# EAGLE library part LTC3836 (library PowerProducts)
LT-Spice library generated with : ltspice.ulp from: D:/Program Files (x86)/LTC/LTspiceIV/lib/sym/PowerProducts/LTC3850-1*.asy at 07.10.2012 18:41:22
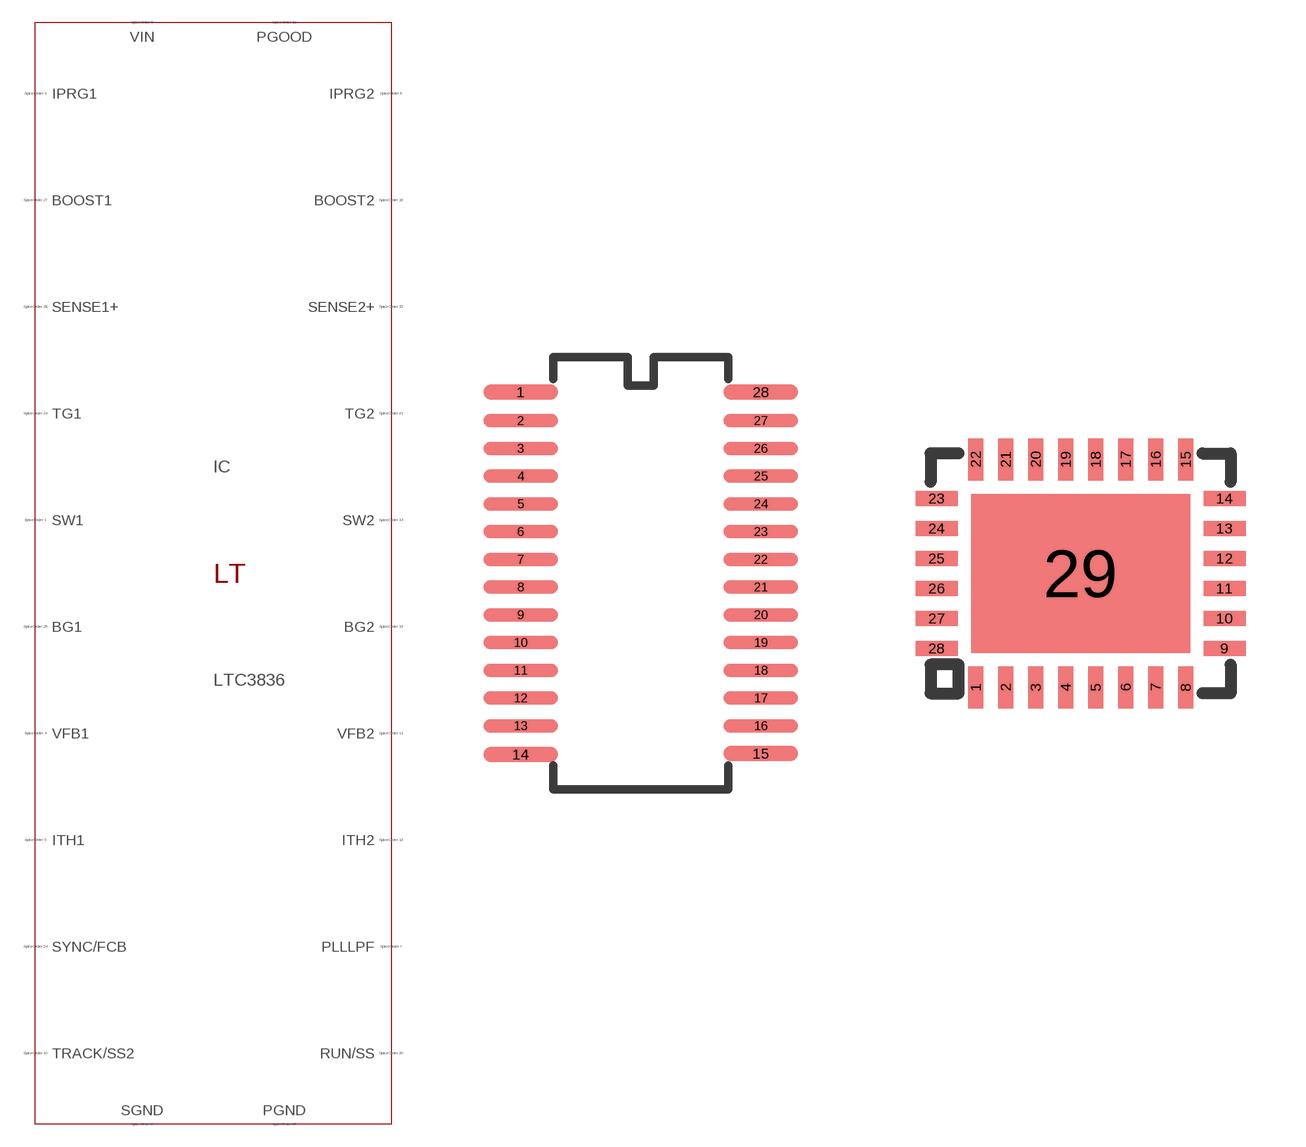
[diagram p361: symbol with the pads of SSOP28(GN); footprints SSOP28(GN), QFN28(UFD)]

Designator prefix IC

## LTC3836 (SPICEMODEL: LTC3836.sub; SPICEPREFIX: X; VALUE2: LTC3836)  [SSOP28(GN)]
1  SW1  pas
3  IPRG1  pas
4  VFB1  pas
5  ITH1  pas
6  IPRG2  pas
7  PLLLPF  pas
8  SGND  pas
9  VIN  pas
10  TRACK/SS2  pas
11  VFB2  pas
12  ITH2  pas
13  PGOOD  pas
14  SW2  pas
15  SENSE2+  pas
16  BOOST2  pas
17  PGND  pas
19  BG2  pas
20  RUN/SS  pas
21  TG2  pas
22  PGND  pas
23  TG1  pas
24  SYNC/FCB  pas
25  BG1  pas
26  PGND  pas
27  BOOST1  pas
28  SENSE1+  pas

## LTC3836UFD (SPICEMODEL: LTC3836.sub; SPICEPREFIX: X; VALUE2: LTC3836)  [QFN28(UFD)]
1  VFB1  pas
2  ITH1  pas
3  IPRG2  pas
4  PLLLPF  pas
5  SGND  pas
6  VIN  pas
7  TRACK/SS2  pas
8  VFB2  pas
9  ITH2  pas
10  PGOOD  pas
11  SW2  pas
12  SENSE2+  pas
13  BOOST2  pas
14  PGND  pas
15  BG2  pas
17  RUN/SS  pas
18  TG2  pas
19  PGND  pas
20  TG1  pas
21  SYNC/FCB  pas
22  BG1  pas
23  PGND  pas
24  BOOST1  pas
25  SENSE1+  pas
26  SW1  pas
27  IPRG1  pas
29  PGND  pas

## Footprint SSOP28(GN) (pad centres in mm)
Package generated from: SSOP28(GN).asc (!PADS-POWERPCB-V5.0-BASIC! DESIGN DATABASE ASCII FILE 1.0) with :import-pads-powerpcb-v5.ulp Version 1.0.1 at 04.10.2012 14:11:39
smd 2.55 x 0.525: 1 -4.123,6.221; 14 -4.123,-6.221; 15 4.123,-6.191; 28 4.123,6.221
smd 2.55 x 0.458: 2 -4.123,5.239; 3 -4.123,4.286; 4 -4.123,3.334; 5 -4.123,2.381; 6 -4.123,1.429; 7 -4.123,0.476; 8 -4.123,-0.476; 9 -4.123,-1.429; 10 -4.123,-2.381; 11 -4.123,-3.334; 12 -4.123,-4.286; 13 -4.123,-5.239; 16 4.123,-5.239; 17 4.123,-4.286; 18 4.123,-3.334; 19 4.123,-2.381; 20 4.123,-1.429; 21 4.123,-0.476; 22 4.123,0.476; 23 4.123,1.429; 24 4.123,2.381; 25 4.123,3.334; 26 4.123,4.286; 27 4.123,5.239

## Footprint QFN28(UFD) (pad centres in mm)
Package generated from: QFN28(UFD).asc (!PADS-POWERPCB-V5.0-BASIC! DESIGN DATABASE ASCII FILE 1.0) with :import-pads-powerpcb-v5.ulp Version 1.0.1 at 04.10.2012 14:11:25
smd 0.375 x 1.05: 1 -2.625,-2.85; 2 -1.875,-2.85; 3 -1.125,-2.85; 4 -0.375,-2.85; 5 0.375,-2.85; 6 1.125,-2.85; 7 1.875,-2.85; 8 2.625,-2.85; 15 2.625,2.85; 16 1.875,2.85; 17 1.125,2.85; 18 0.375,2.85; 19 -0.375,2.85; 20 -1.125,2.85; 21 -1.875,2.85; 22 -2.625,2.85
smd 1.05 x 0.375: 9 3.6,-1.875; 10 3.6,-1.125; 11 3.6,-0.375; 12 3.6,0.375; 13 3.6,1.125; 14 3.6,1.875; 23 -3.6,1.875; 24 -3.6,1.125; 25 -3.6,0.375; 26 -3.6,-0.375; 27 -3.6,-1.125; 28 -3.6,-1.875
smd 5.475 x 3.975: 29 0,0